# EAGLE library part TUSB211 (library TexasInstruments)
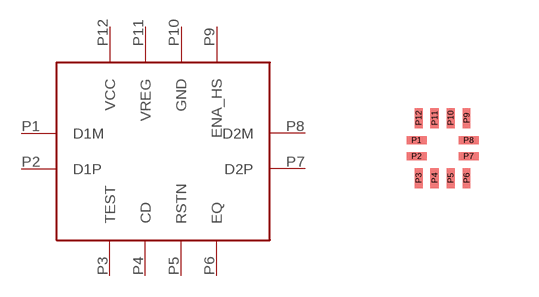
[diagram p0: symbol with the pads of TUSB211; footprint TUSB211]

Designator prefix U

## TUSB211  [TUSB211]
P1  D1M
P2  D1P
P3  TEST
P4  CD
P5  RSTN
P6  EQ
P7  D2P
P8  D2M
P9  ENA_HS
P10  GND
P11  VREG
P12  VCC

## Footprint TUSB211 (pad centres in mm)
smd 0.5 x 0.2: P1 -0.65,0.2; P2 -0.65,-0.2; P7 0.65,-0.2; P8 0.65,0.2
smd 0.2 x 0.5: P3 -0.6,-0.75; P4 -0.2,-0.75; P5 0.2,-0.75; P6 0.6,-0.75; P9 0.6,0.75; P10 0.2,0.75; P11 -0.2,0.75; P12 -0.6,0.75